# EAGLE library part AP1509-50SG-13 (library RoboJackets-PowerICs)
Buck Switching Regulator IC Positive Fixed 5V 1 Output 2A 8-SOIC (0.154", 3.90mm Width) DATASHEET <https://www.diodes.com/assets/Datasheets/AP1509.pdf>
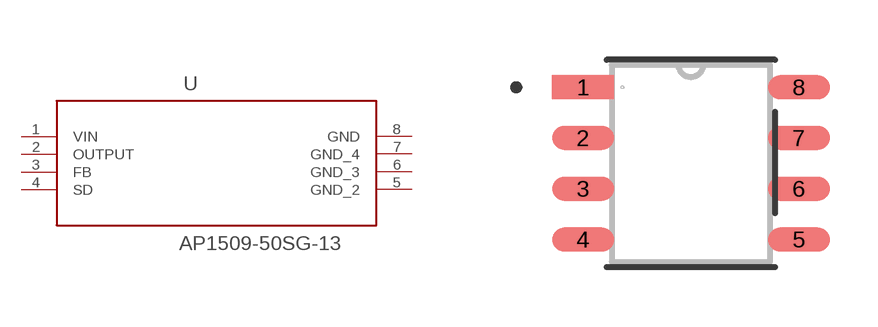
[diagram p8: symbol with the pads of SOP-8L_DIO; footprint SOP-8L_DIO]

Designator prefix U

## AP1509-50SG-13 (DKPN: AP1509-50SGDICT-ND)  [SOP-8L_DIO]
1  VIN  in
2  OUTPUT  out
3  FB  out
4  SD  pas
5  GND_2  pwr
6  GND_3  pwr
7  GND_4  pwr
8  GND  pwr

## Footprint SOP-8L_DIO (pad centres in mm)
DATASHEET <https://www.diodes.com/assets/Datasheets/AP1509.pdf>
smd 1.55 x 0.6: 1 -2.7,1.905; 2 -2.7,0.635; 3 -2.7,-0.635; 4 -2.7,-1.905; 5 2.7,-1.905; 6 2.7,-0.635; 7 2.7,0.635; 8 2.7,1.905